# Altium footprint library FTP GER. ABS.PcbLib: 19 footprints (part 2 of 2)
Each footprint in its own frame and in the unit in brackets; x right, y up, seen from the top. Pads: shape width x height; smd on the part's side, far side on the other; paste and mask are expansions set on the pad; w line width, h text height; cw(c..) or ccw(c..) is an arc to the next point about the centre after c.
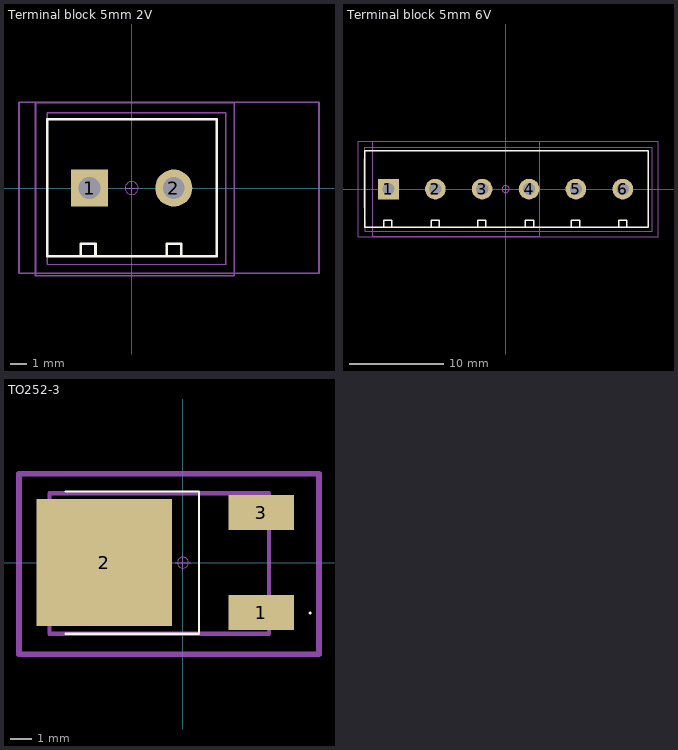
[diagram p1: the footprints below, top view; thin cyan lines are the x and y axes]

## Terminal block 5mm 2V [mm]
pads (2):
  rect 2.2x2.2 hole 1.3: 1(-2.5,0)
  round 2.2 hole 1.3: 2(2.5,0)
Top Overlay:
  lines w0.15: -3.012,-4.05 -3.012,-3.302 -2.58,-3.302 -2.148,-3.302 -2.148,-4.05 ; 2.068,-4.05 2.068,-3.302 2.5,-3.302 2.932,-3.302 2.932,-4.05 ; -5.018,-4.05 -5.018,4.1 5.04,4.1 5.04,-4.05 -5.018,-4.05
Mechanical 2:
  lines w0.1: -5.715,-5.207 -5.715,5.08 6.096,5.08 6.096,-5.207 -5.715,-5.207
Top Component Center:
  circle w0.05: c0,0 r0.381
  lines w0.05: -0.381,0 0,0 ; 0,-0.381 0,0 ; 0,0.381 0,0 ; 0.381,0 0,0
Mechanical 15:
  lines w0.1: -5.004,-4.521 5.588,-4.548 5.588,4.47 -5.004,4.47 -5.004,-4.521
Mechanical 20:
  lines w0.1: -6.69,-5.05 11.12,-5.05 11.12,5.1 -6.69,5.1 -6.69,-5.05
3D body "DG125-5.0-02P-14-00AH.STEP": height 13.61, standoff -3.49, extent -4.995,-4.521 5.575,4.479

## Terminal block 5mm 6V [mm]
pads (6):
  rect 2.2x2.2 hole 1.3: 1(-12.5,0)
  round 2.2 hole 1.3: 2(-7.5,0) 3(-2.5,0) 4(2.5,0) 5(7.5,0) 6(12.5,0)
Top Overlay:
  lines w0.15: -13.012,-4.05 -13.012,-3.302 -12.58,-3.302 -12.148,-3.302 -12.148,-4.05 ; -7.932,-4.05 -7.932,-3.302 -7.5,-3.302 -7.068,-3.302 -7.068,-4.05 ; -4.477,-4.05 5.149,-4.05 ; -4.477,4.1 5.149,4.1 ; -4.39,-4.05 -15.018,-4.05 -15.018,4.1 -4.39,4.1 ; -2.979,-4.05 -2.979,-3.302 -2.547,-3.302 -2.115,-3.302 -2.115,-4.05 ; 2.114,-4.05 2.114,-3.302 2.546,-3.302 2.977,-3.302 2.977,-4.05 ; 5.145,-4.05 15.204,-4.05 15.204,4.1 5.145,4.1 ; 7.025,-4.05 7.025,-3.302 7.457,-3.302 7.889,-3.302 7.889,-4.05 ; 12.08,-4.05 12.08,-3.302 12.511,-3.302 12.943,-3.302 12.943,-4.05
Mechanical 2:
  lines w0.1: -15.748,-5.08 16.256,-5.08 16.256,5.08 -15.748,5.08 -15.748,-5.08
Top Component Center:
  circle w0.05: c0,0 r0.381
  lines w0.05: -0.381,0 0,0 ; 0,-0.381 0,0 ; 0,0.381 0,0 ; 0.381,0 0,0
Mechanical 15:
  lines w0.1: -15.025,4.481 -15.055,2.088 -15.055,-1.987 -15.024,-4.482 ; -15.018,-4.482 -4.365,-4.482 ; -15.018,4.481 -4.39,4.481 ; -4.477,-4.482 4.986,-4.482 15.621,-4.482 15.621,4.443 4.986,4.481 -4.477,4.481
Mechanical 20:
  lines w0.1: -14.19,-5.05 3.62,-5.05 3.62,5.1 -14.19,5.1 -14.19,-5.05
3D body "DG125-5.0-06P-14-00AH.STEP": height 13.61, standoff -3.49, extent -14.98,-4.53 15.59,4.47

## TO252-3 [mm]
pads (3):
  rect 3x1.6 smd: 1(3.59,-2.285) 3(3.59,2.285)
  rect 6.2x5.8 smd: 2(-3.59,0)
Top Overlay:
  lines w0.068: 5.788,-2.308 ccw(c5.822,-2.308) 5.856,-2.308 ccw(c5.822,-2.308) 5.788,-2.308
  lines w0.1: -5.36,-3.25 0.74,-3.25 0.74,3.25 -5.36,3.25
Mechanical 2:
  lines w0.254: -7.493,-4.191 6.223,-4.191 6.223,4.064 -7.493,4.064 -7.493,-4.191
Top Component Center:
  circle w0.05: c0,0 r0.25
  lines w0.05: -0.35,0 0.35,0 ; 0,-0.35 0,0.35
Mechanical 15:
  lines w0.2: -6.096,-3.25 3.937,-3.25 3.937,3.175 -6.096,3.175 -6.096,-3.25
3D body "LM317MABDTG.stp": height 2.4, standoff 0.02, extent -6.116,-3.301 3.884,3.149